# Altium integrated library ESP32-C6-WROOM-1-N8.IntLib: 1 symbol
Pins are listed as number, name and electrical type; pins without a type are passive.

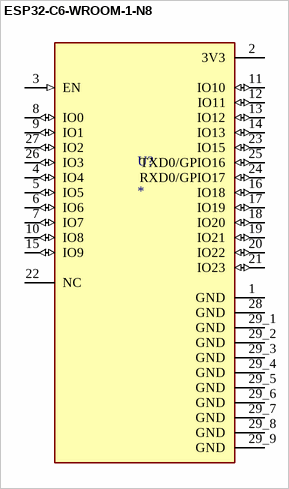
[diagram p0: symbol ESP32-C6-WROOM-1-N8]

## ESP32-C6-WROOM-1-N8
designator U?
Multiprotocol Modules ESP32-C6 module, Wi-Fi 6 in 2.4 GHz band, Bluetooth 5, Zigbee 3.0 and Thread. ESP34-WROOM Compatible - ENGINEERING SAMPLE; MF: Espressif Systems; MP: ESP32-C6-WROOM-1-N8; SnapEDA_Link: https://www.snapeda.com/parts/ESP32-C6-WROOM-1-N8/Espressif+Systems/view-part/?ref=snap; Package: SMD-28 Espressif Systems; Value: *; Check_prices: https://www.snapeda.com/parts/ESP32-C6-WROOM-1-N8/Espressif+Systems/view-part/?ref=eda
footprint XCVR_ESP32-C6-WROOM-1-N8
footprint XCVR_ESP32-C6-WROOM-1-N8
pins: 1 GND (power), 2 3V3 (power), 3 EN (in), 4 IO4 (io), 5 IO5 (io), 6 IO6 (io), 7 IO7 (io), 8 IO0 (io), 9 IO1 (io), 10 IO8 (io), 11 IO10 (io), 12 IO11 (io), 13 IO12 (io), 14 IO13 (io), 15 IO9 (io), 16 IO18 (io), 17 IO19 (io), 18 IO20 (io), 19 IO21 (io), 20 IO22 (io), 21 IO23 (io), 22 NC, 23 IO15 (io), 24 RXD0/GPIO17 (io), 25 TXD0/GPIO16 (io), 26 IO3 (io), 27 IO2 (io), 28 GND (power), 29_1 GND (power), 29_2 GND (power), 29_3 GND (power), 29_4 GND (power), 29_5 GND (power), 29_6 GND (power), 29_7 GND (power), 29_8 GND (power), 29_9 GND (power)